# Altium schematic symbol library Trimmer 1K.SchLib: 1 symbol
Pins are listed as number, name and electrical type; pins without a type are passive.

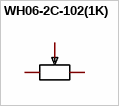
[diagram p0: symbol WH06-2C-102(1K)]

## WH06-2C-102(1K)
designator U?  (value not drawn)
Manufacturer: BOCHEN(博晨); Add into BOM: yes; Value: 1kΩ; Tolerance: ±25%; Symbol: WH06-2C-102(1K); Device: WH06-2C-102(1K); LCSC Part Name: 1kΩ ±25%; Supplier Part: C5205040; Manufacturer Part: WH06-2C-102(1K); Supplier Footprint: 插件; JLCPCB Part Class: Extended Part; Datasheet: https://atta.szlcsc.com/upload/public/pdf/source/20221019/683A1EE763180882FA5E0C1228474CEE.pdf; Supplier: LCSC; Convert to PCB: yes
footprint RES-ADJ-TH_VZ067TL1B202
pins: 1, 2, 3